# EAGLE library part PCA9306 (library Device-IPC7351C)
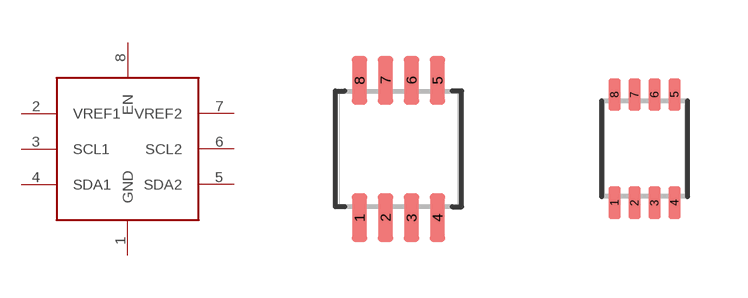
[diagram p0: symbol with the pads of SOP8P65_295X400X130L40X22N--SSOP8; footprints SOP8P65_295X400X130L40X22N--SSOP8, SOP8P50_200X310X90L27X21N--VSSOP8]

Designator prefix IC

## PCA9306DCT  [SOP8P65_295X400X130L40X22N--SSOP8]
1  GND  pwr
2  VREF1  pwr
3  SCL1
4  SDA1
5  SDA2
6  SCL2
7  VREF2  pwr
8  EN  in

## PCA9306DCU  [SOP8P50_200X310X90L27X21N--VSSOP8]
Pads as for SOP8P65_295X400X130L40X22N--SSOP8

## Footprint SOP8P65_295X400X130L40X22N--SSOP8 (pad centres in mm)
SSOP Drawing from PCA9306 PDF SSOP(8) 2.95mmx2.80mm Small Outline Pkg (SOP), 0.65 mm pitch; 8 pin, 2.95 mm L X 2.80 mm W X 1.30 mm H body PCB Libraries Packages
smd 0.38 x 1.22: 1 -0.975,-1.72; 2 -0.325,-1.72; 3 0.325,-1.72; 4 0.975,-1.72; 5 0.975,1.72; 6 0.325,1.72; 7 -0.325,1.72; 8 -0.975,1.72

## Footprint SOP8P50_200X310X90L27X21N--VSSOP8 (pad centres in mm)
VSSOP Drawing from PCA9306 PDF VSSOP(8) 2.30mmx2.00mm Small Outline Pkg (SOP), 0.50 mm pitch; 8 pin, 2.00 mm L X 2.30 mm W X 0.90 mm H body PCB Libraries Packages
smd 0.29 x 0.82: 1 -0.75,-1.355; 2 -0.25,-1.355; 3 0.25,-1.355; 4 0.75,-1.355; 5 0.75,1.355; 6 0.25,1.355; 7 -0.25,1.355; 8 -0.75,1.355